# Altium footprint library PcbLib1.PcbLib: 46 footprints (part 2 of 3)
Each footprint in its own frame and in the unit in brackets; x right, y up, seen from the top. Pads: shape width x height; smd on the part's side, far side on the other; paste and mask are expansions set on the pad; w line width, h text height; cw(c..) or ccw(c..) is an arc to the next point about the centre after c.
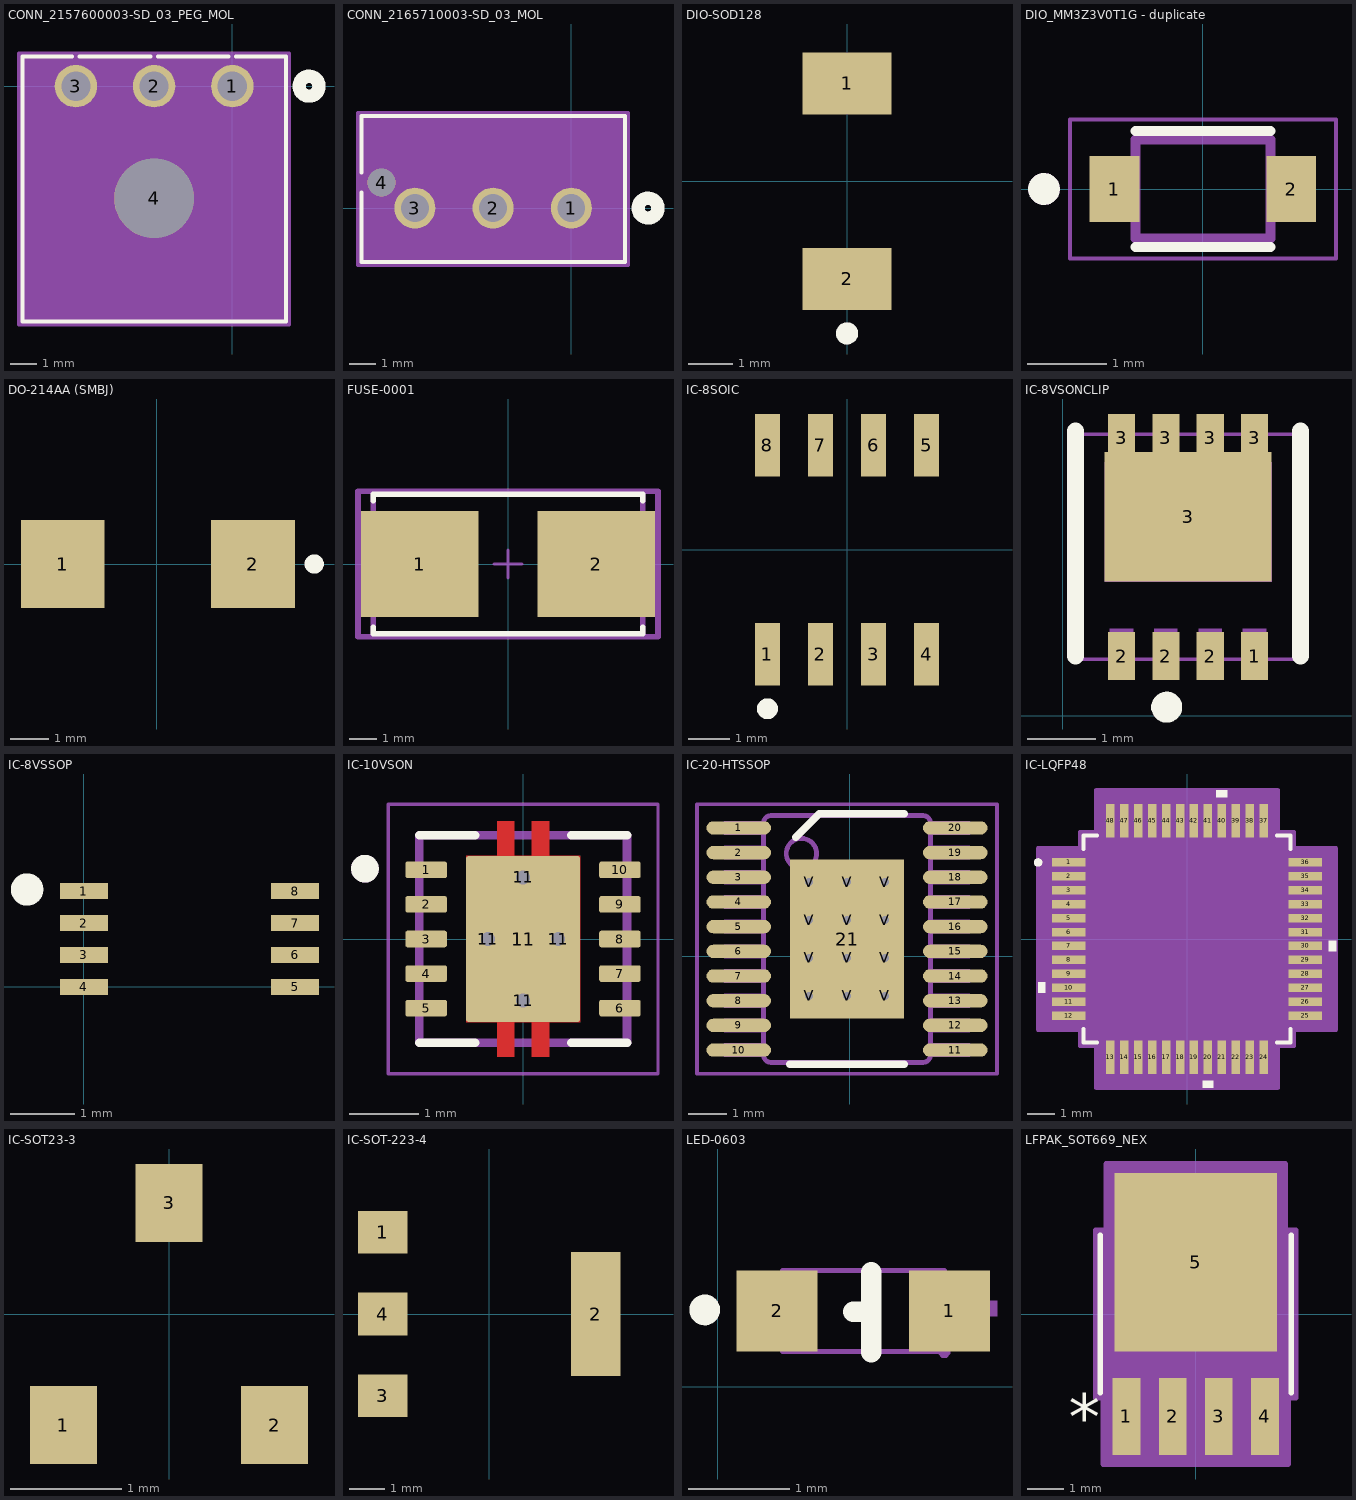
[diagram p1: the footprints below, top view; thin cyan lines are the x and y axes]

## CONN_2157600003-SD_03_PEG_MOL [mil]
pads (4):
  round 64 hole 44 paste-99999 mask+0: 1(0,0) 2(-118.11,0) 3(-236.22,0)
  round 120 hole 120 unplated paste-99999 mask+0: 4(-118.11,-169.29)
Top Overlay:
  circle w20: c115.89,0 r15
  lines w6: -241.72,44.76 -317.11,44.76 -317.11,-355.24 80.89,-355.24 80.89,44.76 5.5,44.76 ; -230.72,44.76 -123.61,44.76 ; -112.61,44.76 -5.5,44.76
  text ".Designator" at -255.61,-25 h50
Bottom Overlay:
  circle w20: c115.89,0 r15
Top 3D Body:
  circle w20: c0,0 r15
  lines w1: -312.11,-350.24 75.89,-350.24 75.89,39.76 -312.11,39.76 -312.11,-350.24
  text ".Designator" at -255.61,-25 h50
Top Courtyard:
  region: 85.89,49.76 -322.11,49.76 -322.11,-360.24 85.89,-360.24
  lines w6: -322.11,-360.24 -322.11,49.76 85.89,49.76 85.89,-360.24 -322.11,-360.24
3D body "2157601003.stp": height 209.84, standoff -149.2, extent -315,-355.08 72.8,35.08

## CONN_2165710003-SD_03_MOL [mil]
pads (4):
  round 62 hole 42 paste-99999 mask+0: 1(0,0) 2(-118.11,0) 3(-236.22,0)
  round 42 hole 42 unplated paste-99999 mask+0: 4(-286.61,38.58)
Top Overlay:
  circle w20: c115.89,0 r15
  lines w6: -317.11,23.32 -317.11,-81.14 80.89,-81.14 80.89,138.86 -317.11,138.86 -317.11,53.84
  text ".Designator" at -365,-150 h50
Bottom Overlay:
  circle w20: c115.89,0 r15
Top 3D Body:
  circle w20: c0,0 r15
  lines w1: -312.11,-76.14 -312.11,133.86 75.89,133.86 75.89,-76.14 -312.11,-76.14
  text ".Designator" at -365,170 h50
Top Courtyard:
  region: 85.89,143.86 -322.11,143.86 -322.11,-86.14 85.89,-86.14
  lines w6: -322.11,-86.14 85.89,-86.14 85.89,143.86 -322.11,143.86 -322.11,-86.14
3D body "2165712003.stp": height 393.7, standoff -121.65, extent -312.01,-74.8 75.79,135.04

## DIO-SOD128 [mm]
pads (2):
  rect 2x1.4 smd: 1(0,2.2) 2(0,-2.2)
Top Overlay:
  circle w0.25: c0,-3.429 r0.125
3D body "RB081LAM-20TR--3DModel-STEP-56544.STEP": height 1.05, standoff 0, extent -1.25,-2.35 1.25,2.35

## DIO_MM3Z3V0T1G - duplicate [mm]
pads (2):
  rect 0.625x0.83 smd: 1(-1.112,0) 2(1.112,0)
Top Overlay:
  circle w0.2: c-2,0 r0.1
  lines w0.127: -0.85,-0.728 0.85,-0.728 ; -0.85,0.728 0.85,0.728
Top 3D Body:
  circle w0.2: c-2,0 r0.1
  lines w0.127: -0.85,-0.625 -0.85,0.625 0.85,0.625 0.85,-0.625 -0.85,-0.625
Top Courtyard:
  lines w0.05: -1.675,-0.875 -1.675,0.875 1.675,0.875 1.675,-0.875 -1.675,-0.875
3D body "step_temp.STEP": height 1, standoff 0, extent -1.25,-0.619 1.25,0.619

## DO-214AA (SMBJ) [mm]
pads (2):
  rect 2.16x2.26 smd: 1(-2.416,0) 2(2.484,0)
Top Overlay:
  circle w0.25: c4.064,0 r0.125
3D body "User Library-DIOM5539X24.STEP": height 2.45, standoff 0.03, extent -2.716,-1.95 2.784,1.95

## FUSE-0001 [mil]
pads (2):
  rect 167x150 smd paste+0 mask+0: 1(-125.5,0) 2(125.5,0)
Top Overlay:
  lines w7.87: -191.54,-89.76 -191.54,-99.02 191.54,-99.02 191.54,-89.76 ; -191.54,89.76 -191.54,99.02 191.54,99.02 191.54,89.76
Top Assembly:
  lines w7.87: -212.94,-102.95 212.94,-102.95 212.94,102.95 -212.94,102.95 -212.94,-102.95
Top 3D Body:
  lines w7.87: -191.54,-99.02 191.54,-99.02 191.54,99.02 -191.54,99.02 -191.54,-99.02
Top Courtyard:
  lines w7.87: -212.94,-102.95 212.94,-102.95 212.94,102.95 -212.94,102.95 -212.94,-102.95
Top Component Center:
  lines w3.94: -19.68,0 19.68,0 ; 0,-19.68 0,19.68
3D body "Fuse_Littelfuse_Inc_01550900M_eec.STEP": height 10, standoff 0, extent -212.94,-102.95 212.94,102.95

## IC-8SOIC [mm]
pads (8):
  rect 0.6x1.5 smd: 1(-1.905,-2.5) 2(-0.635,-2.5) 3(0.635,-2.5) 4(1.905,-2.5) 5(1.905,2.5) 6(0.635,2.5) 7(-0.635,2.5) 8(-1.905,2.5)
Top Overlay:
  circle w0.25: c-1.905,-3.81 r0.125
3D body "SOIC-8_3.9x4.9mm_P1.27mm.step": height 1.75, standoff 0, extent -2.45,-3 2.45,3

## IC-8VSONCLIP [mm]
pads (9):
  rect 0.4x0.7 smd paste-100 mask+0.05: 1(2.812,0.877) 2(0.862,0.877) 2(1.512,0.877) 2(2.162,0.877) 3(0.862,4.077) 3(1.512,4.077) 3(2.162,4.077) 3(2.812,4.077)
  rect 2.45x1.9 smd paste-100 mask+0.05: 3(1.837,2.917)
Top Overlay:
  circle w0.254: c1.524,0.127 r0.1
  lines w0.254: 0.187,0.877 0.187,4.177 ; 3.487,0.877 3.487,4.177
Top Paste:
  region: 3.057,1.967 3.057,3.867 3.017,3.867 3.017,4.427 2.617,4.427 2.607,4.427 2.607,3.867 2.357,3.867 2.357,4.427 1.967,4.427 1.967,3.867 1.707,3.867 1.707,4.427 1.317,4.427 1.317,3.867 1.057,3.867 1.057,4.427 0.667,4.427 0.667,3.867 0.607,3.867 0.607,1.957
  region: 0.662,1.227 1.062,1.227 1.062,0.527 0.662,0.527
  region: 1.312,1.227 1.712,1.227 1.712,0.527 1.312,0.527
  region: 1.962,1.227 2.362,1.227 2.362,0.527 1.962,0.527
  region: 2.612,1.227 3.012,1.227 3.012,0.527 2.612,0.527
Top Courtyard:
  region: 2.662,4.127 2.962,4.127 2.962,3.677 2.662,3.677
  region: 2.012,4.127 2.312,4.127 2.312,3.677 2.012,3.677
  region: 1.362,4.127 1.662,4.127 1.662,3.677 1.362,3.677
  region: 0.712,4.127 1.012,4.127 1.012,3.677 0.712,3.677
  region: 0.612,3.718 3.062,3.718 3.062,1.968 0.612,1.968
  region: 2.642,1.277 2.982,1.277 2.982,0.827 2.642,0.827
  region: 1.992,1.277 2.332,1.277 2.332,0.827 1.992,0.827
  region: 1.342,1.277 1.682,1.277 1.682,0.827 1.342,0.827
  region: 0.692,1.277 1.032,1.277 1.032,0.827 0.692,0.827
  region: 0.247,0.827 0.247,0.852 0.212,0.887 0.162,0.887 0.127,0.852 0.127,0.827 0.127,0.802 0.162,0.767 0.212,0.767 0.247,0.802
  lines w0.051: 0.187,0.827 3.487,0.827 3.487,4.127 0.187,4.127 0.187,0.827
3D body "CSD17575Q3.step": height 1.1, standoff 0, extent 0.179,0.891 3.479,4.191

## IC-8VSSOP [mm]
pads (8):
  rect 0.75x0.25 smd: 1(0,1.5) 2(0,1) 3(0,0.5) 4(0,0) 5(3.3,0) 6(3.3,0.5) 7(3.3,1) 8(3.3,1.5)
Top Overlay:
  circle w0.254: c-0.889,1.524 r0.127
3D body "SN74LVC2G157DCUR.STEP": height 0.9, standoff 0, extent 0.101,-0.238 3.201,1.762

## IC-10VSON [mm]
pads (15):
  rrect25% 0.6x0.24 smd mask+0: 1(-1.4,1) 2(-1.4,0.5) 3(-1.4,0) 4(-1.4,-0.5) 5(-1.4,-1) 6(1.4,-1) 7(1.4,-0.5) 8(1.4,0) 9(1.4,0.5) 10(1.4,1)
  round 0.368 hole 0.2 mask+0: 11(-0.508,0) 11(0,-0.889) 11(0,0.889) 11(0.508,0)
  rrect5% 1.65x2.4 smd paste-2 mask+0: 11(0,0)
Top Layer:
  region: 0.375,1.2 0.825,1.2 0.825,-1.2 0.375,-1.2 0.375,-1.7 0.125,-1.7 0.125,-1.2 -0.125,-1.2 -0.125,-1.7 -0.375,-1.7 -0.375,-1.2 -0.825,-1.2 -0.825,1.2 -0.375,1.2 -0.375,1.7 -0.125,1.7 -0.125,1.2 0.125,1.2 0.125,1.7 0.375,1.7
Top Overlay:
  circle w0.2: c-2.286,1.016 r0.1
  lines w0.127: -1.5,-1.5 -0.695,-1.5 ; -1.5,1.5 -0.695,1.5 ; 0.695,-1.5 1.5,-1.5 ; 0.695,1.5 1.5,1.5
Top Paste:
  region: -0.125,-1.7 -0.375,-1.7 -0.375,-1.36 -0.125,-1.36
  region: 0.375,-1.7 0.125,-1.7 0.125,-1.36 0.375,-1.36
  region: -0.125,1.36 -0.375,1.36 -0.375,1.7 -0.125,1.7
  region: 0.375,1.36 0.125,1.36 0.125,1.7 0.375,1.7
  region: 0.75,-1.16 -0.75,-1.16 -0.75,-0.1 0.75,-0.1
  region: 0.75,0.1 -0.75,0.1 -0.75,1.16 0.75,1.16
Top Solder:
  region: -1.03,0.81 -1.77,0.81 -1.77,1.19 -1.03,1.19
  region: -1.03,0.31 -1.77,0.31 -1.77,0.69 -1.03,0.69
  region: -1.03,-0.19 -1.77,-0.19 -1.77,0.19 -1.03,0.19
  region: -1.03,-0.69 -1.77,-0.69 -1.77,-0.31 -1.03,-0.31
  region: -1.03,-1.19 -1.77,-1.19 -1.77,-0.81 -1.03,-0.81
  region: 1.77,-1.19 1.03,-1.19 1.03,-0.81 1.77,-0.81
  region: 1.77,-0.69 1.03,-0.69 1.03,-0.31 1.77,-0.31
  region: 1.77,-0.19 1.03,-0.19 1.03,0.19 1.77,0.19
  region: 1.77,0.31 1.03,0.31 1.03,0.69 1.77,0.69
  region: 1.77,0.81 1.03,0.81 1.03,1.19 1.77,1.19
  region: 0.445,1.27 0.895,1.27 0.895,-1.27 0.445,-1.27 0.445,-1.77 0.055,-1.77 0.055,-1.27 -0.055,-1.27 -0.055,-1.77 -0.445,-1.77 -0.445,-1.27 -0.895,-1.27 -0.895,1.27 -0.445,1.27 -0.445,1.77 -0.055,1.77 -0.055,1.27 0.055,1.27 0.055,1.77 0.445,1.77
Top 3D Body:
  circle w0.2: c-2.286,1.016 r0.1
  lines w0.127: -1.5,-1.5 1.5,-1.5 1.5,1.5 -1.5,1.5 -1.5,-1.5
Top Courtyard:
  lines w0.05: -1.95,-1.95 1.95,-1.95 1.95,1.95 -1.95,1.95 -1.95,-1.95
3D body "UCC27282DRCR.step": height 1, standoff 0, extent -1.476,-1.476 1.524,1.524

## IC-20-HTSSOP [mm]
pads (33):
  oval 1.7x0.35 smd paste-0.102 mask+0.051: 1(-2.925,3.375) 2(-2.925,2.725) 3(-2.925,2.075) 4(-2.925,1.425) 5(-2.925,0.775) 6(-2.925,0.125) 7(-2.925,-0.525) 8(-2.925,-1.175) 9(-2.925,-1.825) 10(-2.925,-2.475) 11(2.775,-2.475) 12(2.775,-1.825) 13(2.775,-1.175) 14(2.775,-0.525) 15(2.775,0.125) 16(2.775,0.775) 17(2.775,1.425) 18(2.775,2.075) 19(2.775,2.725) 20(2.775,3.375)
  rect 3x4.2 smd paste-0.102 mask+0.051: 21(-0.075,0.45)
  round 0.5 hole 0.2 paste-2539.97 mask+0.051: V(-1.075,-1.05) V(-1.075,-0.05) V(-1.075,0.95) V(-1.075,1.95) V(-0.075,-1.05) V(-0.075,-0.05) V(-0.075,0.95) V(-0.075,1.95) V(0.925,-1.05) V(0.925,-0.05) V(0.925,0.95) V(0.925,1.95)
Top Overlay:
  lines w0.2: -1.575,-2.85 1.425,-2.85 ; -1.425,3.125 -0.8,3.75 1.425,3.75
Top 3D Body:
  drawing of 250 lines, arcs and shapes, not listed
Top Courtyard:
  lines w0.1: -0.575,0.45 0.425,0.45 ; -0.075,-0.05 -0.075,0.95 ; -4.025,-3.1 3.875,-3.1 3.875,4 -4.025,4 -4.025,-3.1
3D body "PWP0020A.stp": height 1, standoff 0, extent -3.285,-2.8 3.135,3.7

## IC-LQFP48 [mm]
pads (48):
  rect 1.194x0.305 smd paste+0 mask+0: 1(-4.25,2.75) 2(-4.25,2.25) 3(-4.25,1.75) 4(-4.25,1.25) 5(-4.25,0.75) 6(-4.25,0.25) 7(-4.25,-0.25) 8(-4.25,-0.75) 9(-4.25,-1.25) 10(-4.25,-1.75) 11(-4.25,-2.25) 12(-4.25,-2.75) 25(4.25,-2.75) 26(4.25,-2.25) 27(4.25,-1.75) 28(4.25,-1.25) 29(4.25,-0.75) 30(4.25,-0.25) 31(4.25,0.25) 32(4.25,0.75) 33(4.25,1.25) 34(4.25,1.75) 35(4.25,2.25) 36(4.25,2.75)
  rect 0.305x1.194 smd paste+0 mask+0: 13(-2.75,-4.25) 14(-2.25,-4.25) 15(-1.75,-4.25) 16(-1.25,-4.25) 17(-0.75,-4.25) 18(-0.25,-4.25) 19(0.25,-4.25) 20(0.75,-4.25) 21(1.25,-4.25) 22(1.75,-4.25) 23(2.25,-4.25) 24(2.75,-4.25) 37(2.75,4.25) 38(2.25,4.25) 39(1.75,4.25) 40(1.25,4.25) 41(0.75,4.25) 42(0.25,4.25) 43(-0.25,4.25) 44(-0.75,4.25) 45(-1.25,4.25) 46(-1.75,4.25) 47(-2.25,4.25) 48(-2.75,4.25)
Top Overlay:
  circle w0.152: c-5.351,2.75 r0.076
  region: 1.441,5.101 1.06,5.101 1.06,5.355 1.441,5.355
  region: 5.101,-0.059 5.355,-0.059 5.355,-0.44 5.101,-0.44
  region: 0.941,-5.101 0.56,-5.101 0.56,-5.355 0.941,-5.355
  region: -5.101,-1.559 -5.355,-1.559 -5.355,-1.94 -5.101,-1.94
  lines w0.152: -3.721,-3.235 -3.721,-3.721 -3.235,-3.721 ; -3.721,3.235 -3.721,3.721 -3.235,3.721 ; 3.235,-3.721 3.721,-3.721 3.721,-3.235 ; 3.235,3.721 3.721,3.721 3.721,3.235
Top 3D Body:
  circle w0: c-3.018,2.75 r0.076
  lines w0.025: -3.594,2.324 -2.324,3.594 ; -3.594,-3.594 -3.594,3.594 3.594,3.594 3.594,-3.594 -3.594,-3.594
Top Courtyard:
  region: -3.258,-3.848 -3.848,-3.848 -3.848,-3.258 -5.355,-3.258 -5.355,3.258 -3.848,3.258 -3.848,3.848 -3.258,3.848 -3.258,5.355 3.258,5.355 3.258,3.848 3.848,3.848 3.848,3.258 5.355,3.258 5.355,-3.258 3.848,-3.258 3.848,-3.848 3.258,-3.848 3.258,-5.355 -3.258,-5.355
  lines w0.152: -5.355,-3.258 -5.355,3.258 -3.848,3.258 -3.848,3.848 -3.258,3.848 -3.258,5.355 3.258,5.355 3.258,3.848 3.848,3.848 3.848,3.258 5.355,3.258 5.355,-3.258 3.848,-3.258 3.848,-3.848 3.258,-3.848 3.258,-5.355 -3.258,-5.355 -3.258,-3.848 -3.848,-3.848 -3.848,-3.258 -5.355,-3.258
3D body "LQFP48-7x7mm.step": height 1.6, standoff 0, extent -4.497,-4.497 4.497,4.497

## IC-SOT23-3 [mm]
pads (3):
  rect 0.6x0.7 smd: 1(-0.95,-1) 2(0.95,-1) 3(0,1)
3D body "LM4040C20IDBZTG4.STEP": height 1.12, standoff 0, extent -1.46,-1.185 1.46,1.185

## IC-SOT-223-4 [mm]
pads (4):
  rect 1.4x1.2 smd mask+0.07: 1(-3,2.3) 3(-3,-2.3) 4(-3,0)
  rect 1.4x3.5 smd: 2(3,0)
3D body "DCY0004A.stp": height 1.68, standoff 0, extent -3.5,-3.25 3.5,3.25

## LED-0603 [mm]
pads (2):
  rect 0.8x0.8 smd: 1(2.291,0.751) 2(0.589,0.751)
Top Overlay:
  circle w0.152: c-0.127,0.762 r0.076
  lines w0.203: 1.341,0.743 1.516,0.743 ; 1.516,0.345 1.516,1.132
Mechanical 6:
  region: 2.1,0.853 2.761,0.853 2.761,0.7 2.1,0.7
  region: 2.376,0.476 2.376,1.136 2.528,1.136 2.528,0.476
  region: 0.247,0.801 0.907,0.801 0.907,0.648 0.247,0.648
Top Courtyard:
  region: 2.3,0.351 2.3,0.376 2.265,0.411 2.215,0.411 2.18,0.376 2.18,0.351 2.18,0.326 2.215,0.291 2.265,0.291 2.3,0.326
  region: 2.24,1.151 2.24,0.351 1.94,0.351 1.94,1.151
  region: 0.64,0.351 0.64,1.151 0.94,1.151 0.94,0.351
  lines w0.051: 0.64,0.351 2.24,0.351 2.24,1.151 0.64,1.151 0.64,0.351
3D body "IN-S63AT5A.stp": height 0.39, standoff 0, extent 0.649,0.356 2.249,1.156

## LFPAK_SOT669_NEX [mil]
pads (5):
  rect 30x83 smd paste+0 mask+0: 1(-75,-111) 2(-25,-111) 3(25,-111) 4(75,-111)
  rect 176x193 smd paste+0 mask+0: 5(0,56)
Top Overlay:
  lines w6: -103.5,-85.5 -103.5,85.5 ; 103.5,-85.5 103.5,85.5
  text "*" at -137.5,-136 h50
Top 3D Body:
  lines w1: -98.5,-80.5 -98.5,80.5 98.5,80.5 98.5,-80.5 -98.5,-80.5 ; -85,-132.5 -65,-132.5 -65,-80.5 -85,-80.5 -85,-132.5 ; -35,-132.5 -15,-132.5 -15,-80.5 -35,-80.5 -35,-132.5 ; 15,-132.5 35,-132.5 35,-80.5 15,-80.5 15,-132.5 ; 65,-132.5 85,-132.5 85,-80.5 65,-80.5 65,-132.5
  text "*" at -87.5,-95.5 h50
Top Courtyard:
  region: -108.5,-90.5 -108.5,90.5 -97,90.5 -97,162.5 97,162.5 97,90.5 108.5,90.5 108.5,-90.5 100,-90.5 100,-162.5 -100,-162.5 -100,-90.5
  lines w6: -108.5,-90.5 -100,-90.5 -100,-162.5 100,-162.5 100,-90.5 108.5,-90.5 108.5,90.5 97,90.5 97,162.5 -97,162.5 -97,90.5 -108.5,90.5 -108.5,-90.5
3D body "PSMN5R5-100YSFX.stp": height 29.44, standoff -9.84, extent -95.67,-115.55 93.7,125